# Altium schematic symbol library PALib.SchLib: 28 symbols
Pins are listed as number, name and electrical type; pins without a type are passive.

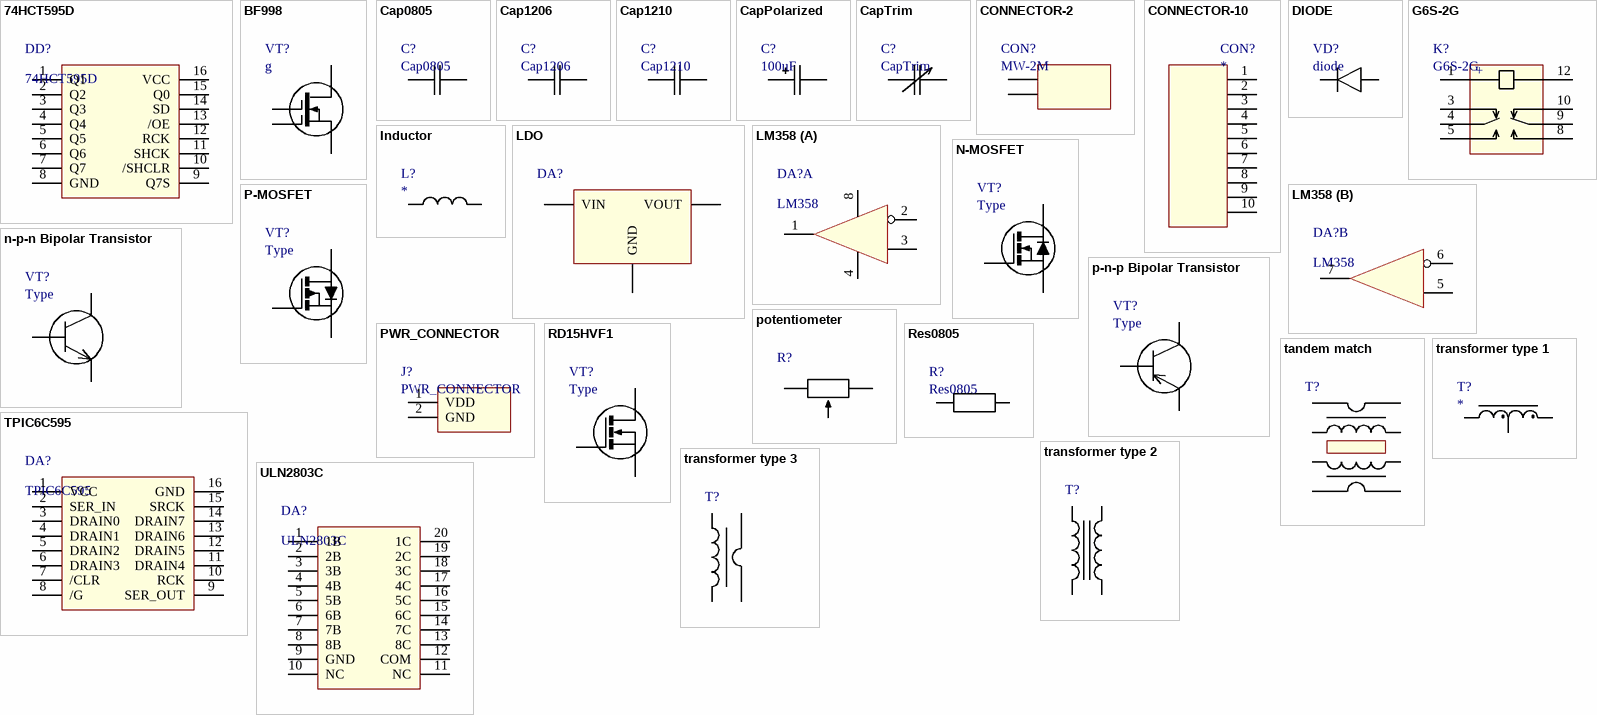
[diagram p0: symbols 74HCT595D to ULN2803C]

## 74HCT595D
designator DD?
8-bit serial-in, serial or parallel-out shift register with output / latches; 3-state
pins: 1 Q1, 2 Q2, 3 Q3, 4 Q4, 5 Q5, 6 Q6, 7 Q7, 8 GND, 9 Q7S, 10 /SHCLR, 11 SHCK, 12 RCK, 13 /OE, 14 SD, 15 Q0, 16 VCC

## BF998
designator VT?, comment g
footprint SOT23
pins: 1 1G, 2 2G, 3 D, 3 S

## Cap0805
designator C?
Capacitor 2x1.25 mm
footprint CAPC2013X100N (Capacitor 0805, Non-Polarized, Chip; 2.00mm L X 1.25mm W X 0.9mm H, IPC Medium Density)
pins: 1, 2

## Cap1206
designator C?
Capacitor 3.2x1.6 mm
footprint CAPC3216X125N (Capacitor 1206, Non-Polarized, Chip; 3.20mm L X 1.60mm W X 1.25mm H, IPC Medium Density)
pins: 1, 2

## Cap1210
designator C?
Capacitor 3.2x2.5 mm
footprint CAPC3225X200N (Capacitor 1210, Body 3.2x2.5mm, IPC Medium Density)
pins: 1, 2

## CapPolarized
designator C?, comment 100uF
TECAP 100/20V E 10
footprint CAPMP3528X210N (Capacitor, Polarized, Molded  Body 3.5x2.8mm, IPC Medium Density)
footprint CAPMP6032X280N (Capacitor, Polarized, Molded  Body 6.0x3.2mm, IPC Medium Density)
footprint CAPMP7343X430N (Capacitor, Polarized, Molded  Body 7.3x4.3mm, IPC Medium Density)
pins: 1, 2

## CapTrim
designator C?
pins: 1, 2

## CONNECTOR-2
designator CON?, comment MW-2M
pins: 1, 2

## CONNECTOR-10
designator CON?
pins: 1, 2, 3, 4, 5, 6, 7, 8, 9, 10

## DIODE
designator VD?, comment diode
pins: 1  C, 2 A

## G6S-2G
designator K?
Compact, Industry-Standard 2-pole relay
pins: 1, 3, 4, 5, 8, 9, 10, 12
text: +

## Inductor
designator L?
Inductor
pins: 1, 2

## LDO
designator DA?
pins: 1 VIN (power), 2 VOUT (power), 3 GND (power)

## LM358
designator DA?
Single Supply Dual / Operational Amplifiers
part A pins: 1 OUT1, 2 IN1-, 3 IN1+, 4 GND, 8 VCC
part B pins: 5 IN2+, 6 IN2-, 7 OUT2

## N-MOSFET
designator VT?, comment Type
footprint SOT23
pins: 1 G, 2 S, 3 D

## n-p-n Bipolar Transistor
designator VT?, comment Type
pins: 1 B, 2 E, 3 C

## P-MOSFET
designator VT?, comment Type
footprint SOT23
pins: 1 G, 2 S, 3 D

## p-n-p Bipolar Transistor
designator VT?, comment Type
pins: 1 B, 2 E, 3 C

## potentiometer
designator R?  (value not drawn)
pins: 1, 1, 2

## PWR_CONNECTOR
designator J?
pins: 1 VDD (power), 2 GND (power)

## RD15HVF1
designator VT?, comment Type
footprint SOT23
pins: 1 G, 2 S, 3 D

## Res0805
designator R?
footprint RESC2013X64N (Chip Resistor, EIA 0805, Metric 2013, Body 2.03x1.27mm, IPC Medium Density)
pins: 1, 2

## tandem match
designator T?  (value not drawn)
transformer
pins: 1, 1, 1, 1, 2, 2, 2, 2

## TPIC6C595
designator DA?
Power Logic 8-Bit Shift Register
pins: 1 VCC, 2 SER_IN, 3 DRAIN0, 4 DRAIN1, 5 DRAIN2, 6 DRAIN3, 7 /CLR, 8 /G, 9 SER_OUT, 10 RCK, 11 DRAIN4, 12 DRAIN5, 13 DRAIN6, 14 DRAIN7, 15 SRCK, 16 GND

## transformer type 1
designator T?
transformer
pins: 1, 1, 2

## transformer type 2
designator T?  (value not drawn)
transformer
pins: 1, 1, 2, 2

## transformer type 3
designator T?  (value not drawn)
transformer
pins: 1, 1, 2, 2

## ULN2803C
designator DA?
Darlington Transistor Array
pins: 1 1B, 2 2B, 3 3B, 4 4B, 5 5B, 6 6B, 7 7B, 8 8B, 9 GND, 10 NC, 11 NC, 12 COM, 13 8C, 14 7C, 15 6C, 16 5C, 17 4C, 18 3C, 19 2C, 20 1C